# EAGLE library part MARKLIN-MD-10 (library Marklin-Mini-DIN)
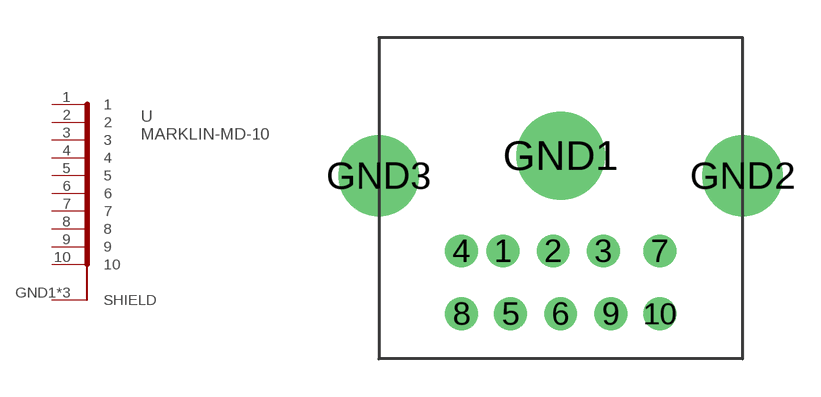
[diagram p0: symbol with the pads of MARKLIN-MD-10-PRINT; footprint MARKLIN-MD-10-PRINT]

Designator prefix -

## MARKLIN-MD-10  [MARKLIN-MD-10-PRINT]
1  1
2  2
3  3
4  4
5  5
6  6
7  7
8  8
9  9
10  10
GND1  SHIELD
GND2  SHIELD
GND3  SHIELD

## Footprint MARKLIN-MD-10-PRINT (pad centres in mm)
drill 0.8 pad 1.1: 1 -2.3,1.25; 2 -0.3,1.25; 3 1.7,1.25; 4 -3.95,1.25; 5 -2,-1.25; 6 0,-1.25; 7 3.95,1.25; 8 -3.95,-1.25; 9 2,-1.25; 10 3.95,-1.25
drill 2.5 pad 2.8: GND1 0,5.05
drill 2.2 pad 2.5: GND2 7.25,4.25; GND3 -7.25,4.25